# Altium footprint library Elet_pot_2.PcbLib: 30 footprints (part 2 of 2)
Each footprint in its own frame and in the unit in brackets; x right, y up, seen from the top. Pads: shape width x height; smd on the part's side, far side on the other; paste and mask are expansions set on the pad; w line width, h text height; cw(c..) or ccw(c..) is an arc to the next point about the centre after c.
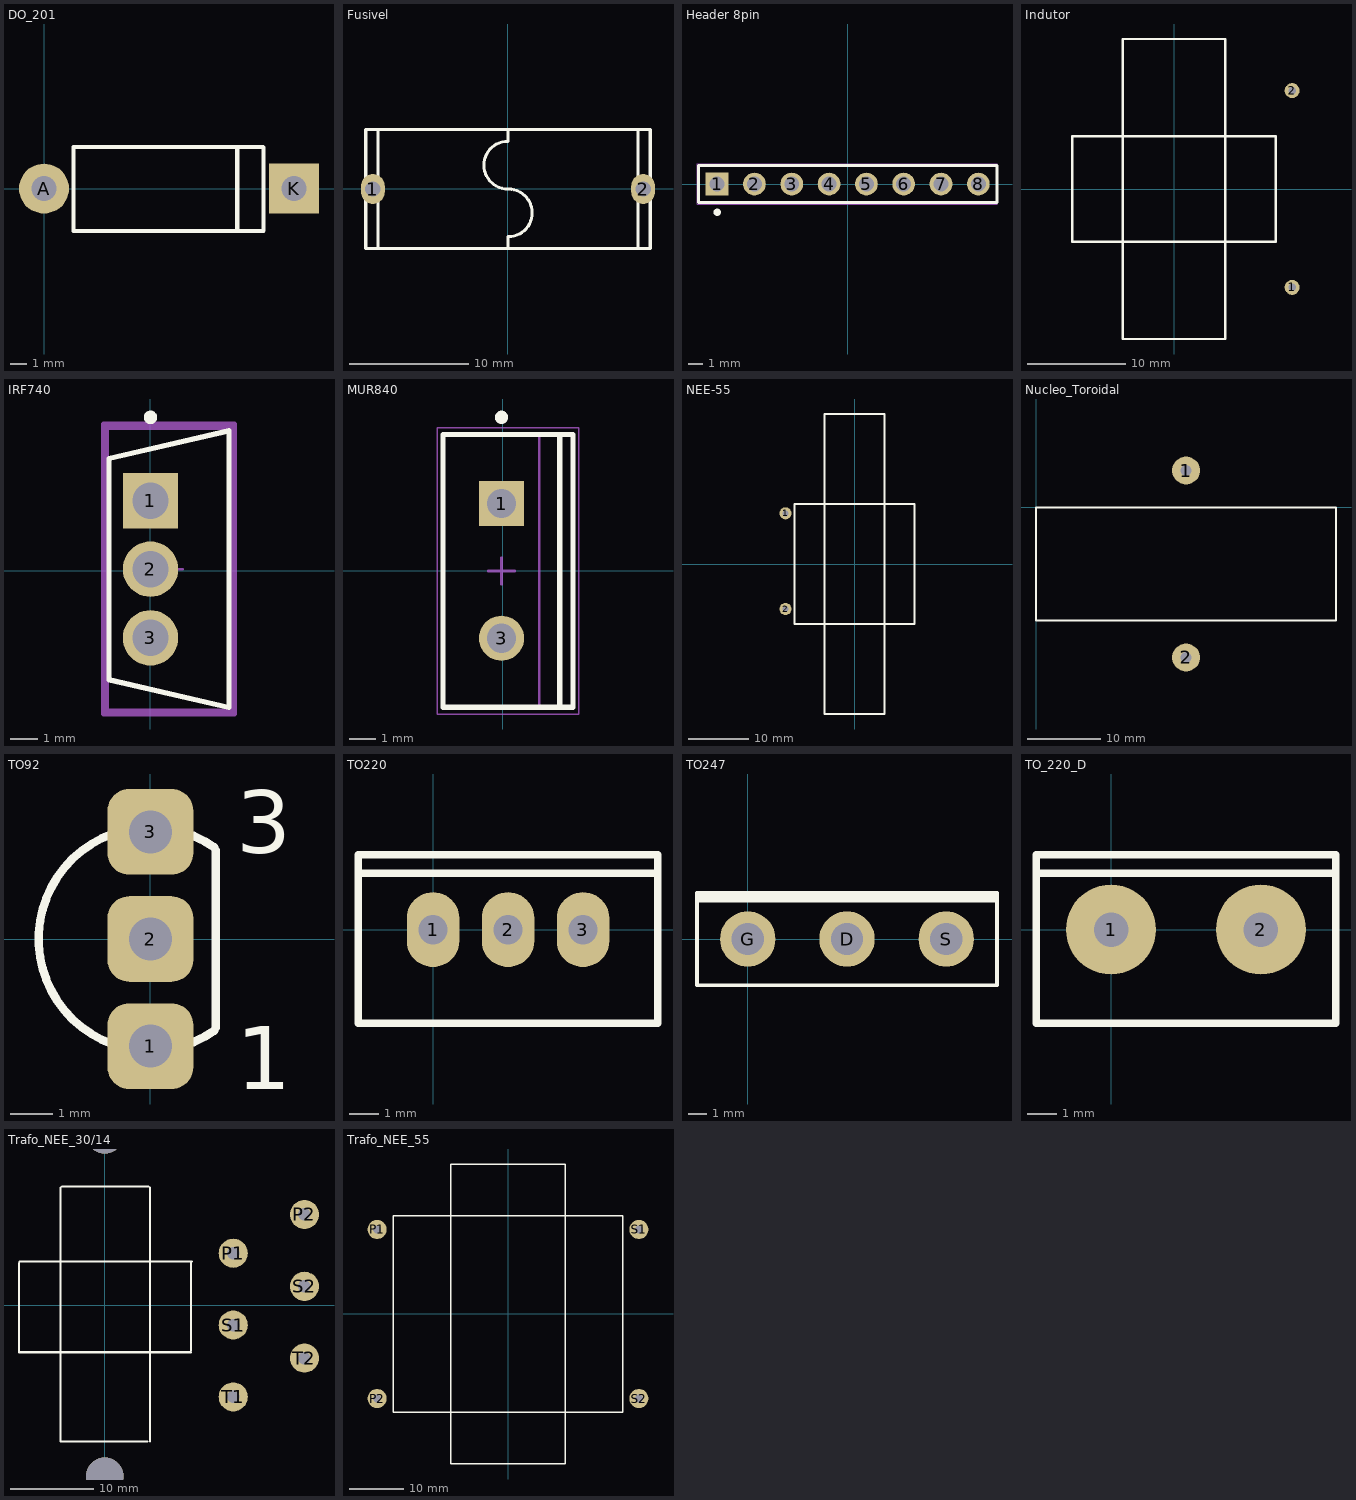
[diagram p1: the footprints below, top view; thin cyan lines are the x and y axes]

## DO_201 [mil]
pads (2):
  round 120 hole 60: A(0,0)
  rect 120x120 hole 60: K(600,0)
Top Overlay:
  lines w10: 71,-2 71,-102 526,-102 ; 71,0 71,100 526,100 ; 464,-100 464,100 ; 527,-101 527,99
Bottom Overlay:
  lines w10: 71,-2 71,-102 526,-102 ; 71,0 71,100 526,100 ; 464,-100 464,100 ; 527,-101 527,99

## Fusivel [mm]
pads (2):
  oval 2x2.5 hole 1.3: 1(-11.325,-0.005) 2(11.375,-0.005)
Top Overlay:
  lines w0.254: -10.875,-5.005 -10.875,4.995 ; 0,0 cw(c0,2) 0,4 ; 0.025,-5.005 0.025,-4.005 ; 0.025,3.995 0.025,4.995 ; 0.059,-4.011 ccw(c0.059,-2.011) 0.059,-0.011 ; 10.925,-5.005 10.925,4.995 ; -11.925,-5.005 -11.925,4.995 11.975,4.995 11.975,-5.005 -11.925,-5.005

## Header 8pin [mm]
pads (8):
  rect 1.55x1.55 hole 1.016: 1(-8.89,0)
  round 1.55 hole 1.016: 2(-6.35,0) 3(-3.81,0) 4(-1.27,0) 5(1.27,0) 6(3.81,0) 7(6.35,0) 8(8.89,0)
Top Overlay:
  circle w0.25: c-8.89,-1.92 r0.125
  lines w0.2: -10.16,-1.27 10.16,-1.27 10.16,1.27 -10.16,1.27 -10.16,-1.27
Mechanical 13:
  lines w0.1: -10.16,-1.27 -10.16,1.27 10.16,1.27 10.16,-1.27 -10.16,-1.27
Mechanical 15:
  lines w0.05: -10.26,-1.37 10.16,-1.37 10.16,1.37 -10.26,1.37 -10.26,-1.37

## Indutor [mil]
pads (2):
  round 60 hole 30: 1(472.44,-393.7) 2(472.44,393.7)
via 0,-789.37 diameter 177.17 hole 177.17
via 0,787.4 diameter 177.17 hole 177.17
Top Overlay:
  lines w10: -407.48,-210.63 407.48,-210.63 407.48,210.63 -407.48,210.63 -407.48,-210.63 ; -204.72,-600.39 204.72,-600.39 204.72,600.39 -204.72,600.39 -204.72,-600.39
3D body: height 1216.54, standoff 0, extent -204.72,-599.41 204.72,599.41
3D body: height 944.88, standoff 157.48, extent -407.48,-210.63 405.51,210.63

## IRF740 [mm]
pads (3):
  rect 2.05x2.05 hole 1.35 paste-2539.97 mask+0: 1(0,2.59)
  round 2.05 hole 1.35 paste-2539.97 mask+0: 2(0,0.05) 3(0,-2.49)
Top Overlay:
  circle w0.25: c0,5.67 r0.125
  lines w0.2: 2.907,-5.07 -1.538,-4.046 -1.538,4.146 2.907,5.17 ; 2.907,-5.02 2.907,5.12
Top 3D Body:
  lines w0.2: -1.64,-5.21 3.01,-5.21 3.01,5.31 -1.64,5.31 -1.64,-5.21
Board:
  lines w0.2: -1.74,-5.31 3.11,-5.31 3.11,5.41 -1.74,5.41 -1.74,-5.31
Top Assembly:
  lines w0.2: -1.74,-5.31 3.11,-5.31 3.11,5.41 -1.74,5.41 -1.74,-5.31
  text ".Designator" at 0.685,0.049 h1
Top Component Center:
  lines w0.1: 0.185,0.05 1.185,0.05 ; 0.685,-0.45 0.685,0.55
3D body "Trans_Vishay_IRF740PBF_eec.STEP": height 0.25, standoff 0, extent -1.74,-5.31 3.11,5.41

## MUR840 [mm]
pads (2):
  rect 1.7x1.7 hole 1.1: 1(-0.05,2.54)
  round 1.7 hole 1.1: 3(-0.05,-2.54)
Top Overlay:
  circle w0.25: c-0.05,5.8 r0.125
  lines w0.2: 2.145,-5.15 2.145,5.15 ; -2.255,-5.15 2.645,-5.15 2.645,5.15 -2.255,5.15 -2.255,-5.15
Mechanical 13:
  lines w0.1: 1.37,-5.15 1.37,5.15 ; -2.23,-5.15 -2.23,5.15 2.62,5.15 2.62,-5.15 -2.23,-5.15
Mechanical 15:
  lines w0.05: -2.48,-5.4 -2.48,5.4 2.87,5.4 2.87,-5.4 -2.48,-5.4
  lines w0.1: -0.55,0 0.45,0 ; -0.05,-0.5 -0.05,0.5
3D body: height 2.79, standoff 0, extent -0.3,1.875 0.2,3.205
3D body: height 0, standoff -1.6, extent -0.3,2.13 0.2,2.95
3D body: height 2.79, standoff 0, extent -0.3,-3.205 0.2,-1.875
3D body: height 0, standoff -1.6, extent -0.3,-2.95 0.2,-2.13
3D body: height 12.8, standoff 2.79, extent -2.23,-5.15 2.62,5.15
3D body: height 14.33, standoff 12.8, extent 1.37,-4.975 2.62,4.975
3D body: height 14.37, standoff 14.33, extent 1.37,0.376 2.62,4.975
3D body: height 14.37, standoff 14.33, extent 1.37,-4.975 2.62,-0.376
3D body: height 18.18, standoff 18.14, extent 1.37,0.376 2.62,4.975
3D body: height 18.18, standoff 18.14, extent 1.37,-4.975 2.62,-0.376
3D body: height 14.48, standoff 14.36, extent 1.37,0.737 2.62,4.975
3D body: height 14.48, standoff 14.36, extent 1.37,-4.975 2.62,-0.737
3D body: height 18.14, standoff 18.03, extent 1.37,0.737 2.62,4.975
3D body: height 18.14, standoff 18.03, extent 1.37,-4.975 2.62,-0.737
3D body: height 14.65, standoff 14.47, extent 1.37,1.069 2.62,4.975
3D body: height 14.65, standoff 14.47, extent 1.37,-4.975 2.62,-1.069
3D body: height 18.03, standoff 17.85, extent 1.37,1.069 2.62,4.975
3D body: height 18.03, standoff 17.85, extent 1.37,-4.975 2.62,-1.069
3D body: height 14.89, standoff 14.65, extent 1.37,1.361 2.62,4.975
3D body: height 14.89, standoff 14.65, extent 1.37,-4.975 2.62,-1.361
3D body: height 17.86, standoff 17.61, extent 1.37,1.361 2.62,4.975
3D body: height 17.86, standoff 17.61, extent 1.37,-4.975 2.62,-1.361
3D body: height 15.19, standoff 14.89, extent 1.37,1.601 2.62,4.975
3D body: height 15.19, standoff 14.89, extent 1.37,-4.975 2.62,-1.601
3D body: height 17.62, standoff 17.32, extent 1.37,1.601 2.62,4.975
3D body: height 17.62, standoff 17.32, extent 1.37,-4.975 2.62,-1.601
3D body: height 15.52, standoff 15.18, extent 1.37,1.778 2.62,4.975
3D body: height 15.52, standoff 15.18, extent 1.37,-4.975 2.62,-1.778
3D body: height 17.32, standoff 16.99, extent 1.37,1.778 2.62,4.975
3D body: height 17.32, standoff 16.99, extent 1.37,-4.975 2.62,-1.778
3D body: height 15.88, standoff 15.51, extent 1.37,1.888 2.62,4.975
3D body: height 15.88, standoff 15.51, extent 1.37,-4.975 2.62,-1.888
3D body: height 16.99, standoff 16.63, extent 1.37,1.888 2.62,4.975
3D body: height 16.99, standoff 16.63, extent 1.37,-4.975 2.62,-1.888
3D body: height 16.25, standoff 15.87, extent 1.37,1.925 2.62,4.975
3D body: height 16.25, standoff 15.87, extent 1.37,-4.975 2.62,-1.925
3D body: height 16.63, standoff 16.25, extent 1.37,1.925 2.62,4.975
3D body: height 16.63, standoff 16.25, extent 1.37,-4.975 2.62,-1.925
3D body: height 19.05, standoff 18.18, extent 1.37,-4.975 2.62,4.975

## NEE-55 [mm]
pads (2):
  round 2 hole 1: 1(-11.5,8.45) 2(-11.5,-7.5)
Top Overlay:
  lines w0.254: -10,-10 10,-10 10,10 -10,10 -10,-10 ; -5,-25 5,-25 5,25 -5,25 -5,-25

## Nucleo_Toroidal [mm]
pads (2):
  round 3.81 hole 1.5: 1(20.4,5) 2(20.4,-20.4)
Top Overlay:
  lines w0.254: 0,-15.4 40.77,-15.4 40.77,0 0,0 0,-15.4
Bottom Overlay:
  lines w0.254: 0,-15.4 40.77,-15.4 40.77,0 0,0 0,-15.4

## TO92 [mil] "TO, Flat Index; 3 In-Line, Axial Leads; Body Dia. 4.8mm; Leads 0.51 x 0.51 mm (max)"
height 209.84
pads (3):
  rrect50% 80x80 hole 40: 1(0,-100) 2(0,0) 3(0,100)
Top Overlay:
  lines w7.87: 59.84,-85.46 cw(c0,0) 59.84,85.46 ; 61.02,-82.68 61.02,82.68
  text "3" at 80,80 h59.05
  text "1" at 80,-140 h59.05

## TO220 [mil]
pads (3):
  oval 70x100 hole 39 unplated: 1(0,0) 2(100,0) 3(200,0)
Top Overlay:
  lines w10: -100,75 300,75 ; -100,-125 -100,100 300,100 300,-125 -100,-125

## TO247 [mil]
pads (3):
  round 120 hole 70: D(215,0) G(0,0) S(430,0)
Top Overlay:
  lines w7.87: -110,83.33 540,83.33 ; -110,86.67 540,86.67 ; -110,91.67 540,91.67 ; -110,95 540,95 ; -110,-100 -110,100 540,100 540,-100 -110,-100
Bottom Overlay:
  lines w7.87: -110,83.33 540,83.33 ; -110,86.67 540,86.67 ; -110,91.67 540,91.67 ; -110,95 540,95 ; -110,-100 540,-100 540,100 -110,100 -110,-100

## TO_220_D [mil]
pads (2):
  round 120 hole 46: 1(0,0) 2(200,0)
Top Overlay:
  lines w10: -100,75 300,75 ; -100,-125 300,-125 300,100 -100,100 -100,-125

## Trafo_NEE_30/14 [mm]
pads (6):
  round 3.5 hole 1.5: P1(15.4,6.275) P2(23.95,10.925) S1(15.4,-2.35) S2(23.95,2.3) T1(15.4,-10.975) T2(23.95,-6.325)
via 0,20.5 diameter 4.5 hole 4.5
via 0,-20.5 diameter 4.5 hole 4.5
Top Overlay:
  lines w0.254: -10.325,5.075 -10.325,-5.625 10.35,-5.625 ; -10.275,5.275 10.425,5.275 ; -5.325,14.175 -5.325,-16.325 5.075,-16.325 ; -5.175,14.275 5.225,14.275 ; 5.425,-16.325 5.425,14.175 ; 10.35,-5.425 10.35,5.275
Bottom Overlay:
  lines w0.254: -10.325,-5.625 -10.325,5.075 ; -5.325,14.175 -5.325,-16.325 5.075,-16.325 ; -5.175,14.275 5.225,14.275 ; 5.425,-16.325 5.425,14.175
3D body: height 28, standoff 0, extent -5.325,-16.325 5.425,14.175
3D body: height 20, standoff 10, extent -10.325,-5.625 10.475,5.25

## Trafo_NEE_55 [mm]
pads (4):
  round 3.5 hole 1.5: P1(-24.025,15.475) P2(-24.025,-15.525) S1(23.975,15.475) S2(23.975,-15.525)
Top Overlay:
  lines w0.254: -21.025,-18.025 20.975,-18.025 20.975,17.975 -21.025,17.975 -21.025,-18.025 ; -10.525,-27.525 -10.525,27.475 10.475,27.475 10.475,-27.525 -10.525,-27.525
Bottom Overlay:
  lines w0.254: -21.025,-18.025 20.975,-18.025 20.975,17.975 -21.025,17.975 -21.025,-18.025 ; -10.525,-27.525 -10.525,27.475 10.475,27.475 10.475,-27.525 -10.525,-27.525